# Altium schematic symbol library Sensor,Accelerometer,BMA253.Schlib: 1 symbol
Pins are listed as number, name and electrical type; pins without a type are passive.

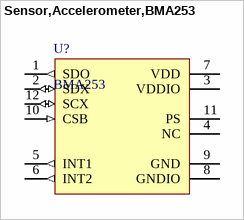
[diagram p0: symbol Sensor,Accelerometer,BMA253]

## Sensor,Accelerometer,BMA253
designator U?, comment BMA253
Accelerometer X, Y, Z Axis ±2g, 4g, 8g, 16g 8Hz ~ 1kHz 12-LGA (2x2)
pins: 1 SDO (out), 2 SDX (io), 3 VDDIO (power), 4 NC, 5 INT1 (out), 6 INT2 (out), 7 VDD (power), 8 GNDIO (power), 9 GND (power), 10 CSB (in), 11 PS, 12 SCX (io)